# Altium footprint library Battery.PcbLib: 12 footprints
Each footprint in its own frame and in the unit in brackets; x right, y up, seen from the top. Pads: shape width x height; smd on the part's side, far side on the other; paste and mask are expansions set on the pad; w line width, h text height; cw(c..) or ccw(c..) is an arc to the next point about the centre after c.
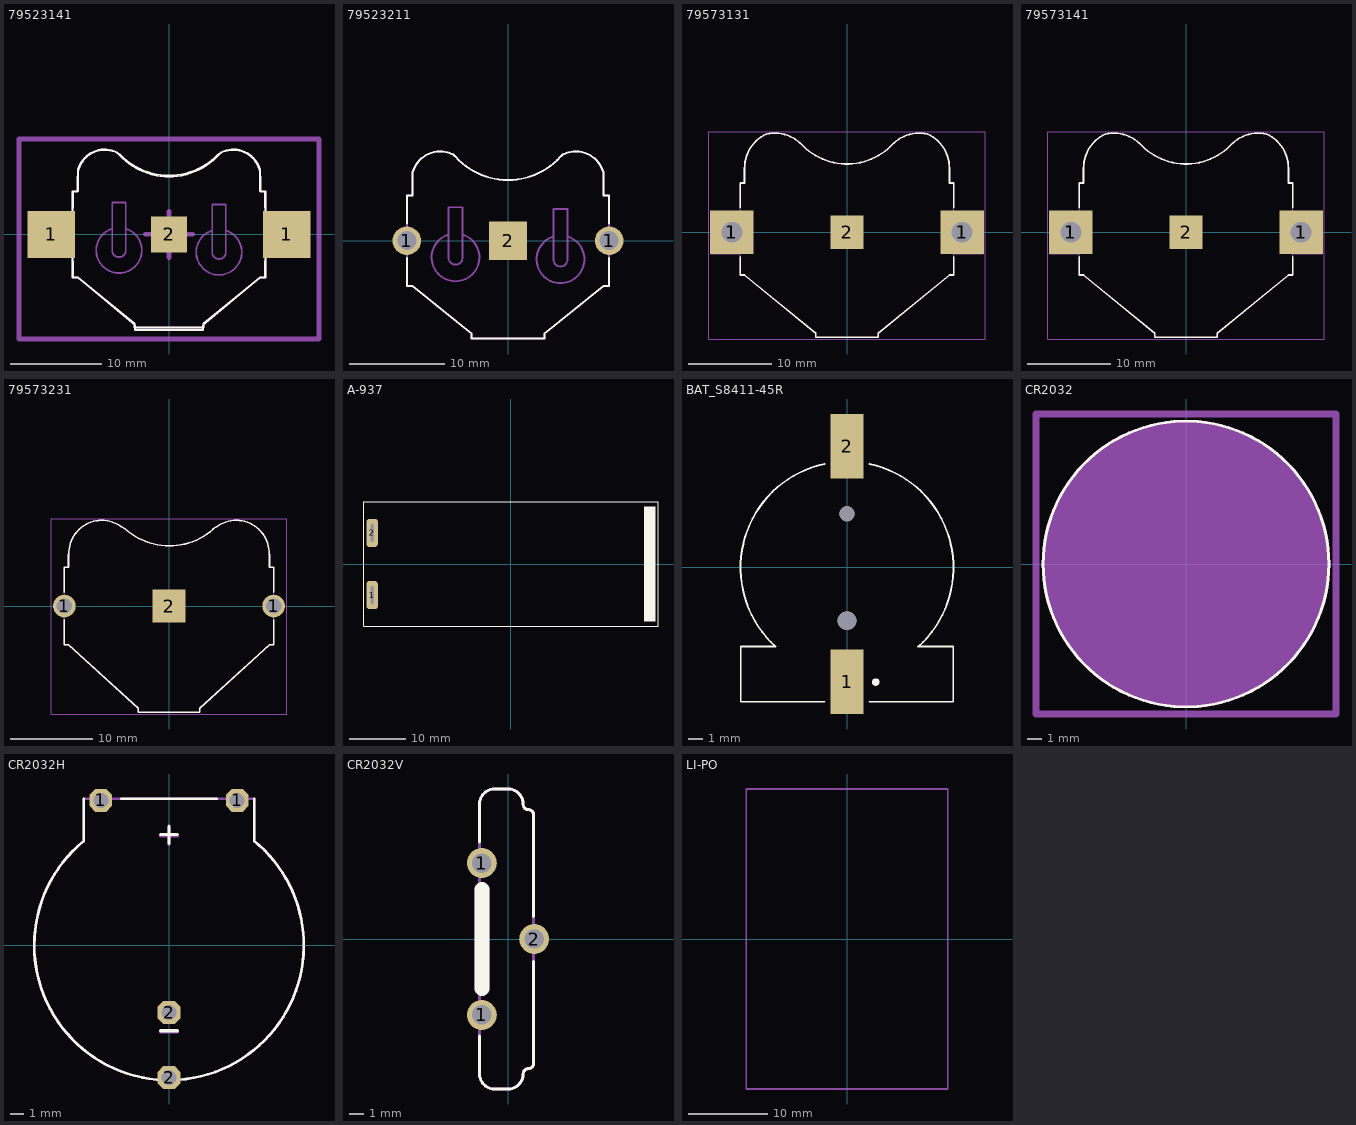
[diagram p0: the footprints below, top view; thin cyan lines are the x and y axes]

## 79523141 [mm] "Battery Holder, Battery Type: 2016,2020,2025,2032"
height 3.85
pads (4):
  rect 5.2x5.2 smd: 1(-12.95,0) 1(12.95,0)
  rect 4x4 smd: 2(0,0) 2(0,0)
Top Overlay:
  lines w0.2: -10.6,-1.8 -10.6,-4.75 -10,-4.75 -3.81,-9.762 -3.81,-10.25 3.81,-10.25 3.81,-9.762 10,-4.75 10.6,-4.75 10.6,-1.8 ; -10.6,1.8 -10.6,4.75 -10,4.75 -10,7.126 ; -10.55,-2.95 -10.55,-4.7 -10.05,-4.7 -3.743,-9.992 ; -10.55,2.95 -10.55,4.7 -10.05,4.7 -10.05,6.3 cw(c-7.05,6.3) -5.426,8.823 ccw(c0,14) 5.426,8.823 cw(c7.05,6.3) 10.05,6.3 10.05,4.7 10.55,4.7 10.55,2.95 ; -9.998,7.126 cw(c-7.1,6.35) -5.737,9.023 ; -5.709,8.992 ccw(c-4.45,10.15) -5.468,8.775 ; -5.471,8.772 ccw(c0,13.74) 5.472,8.773 ; -3.75,-10 -3.75,-10.5 3.75,-10.5 3.75,-10 ; 3.743,-9.992 10.05,-4.7 10.55,-4.7 10.55,-2.95 ; 5.469,8.775 ccw(c4.45,10.15) 5.71,8.992 ; 5.738,9.023 cw(c7.1,6.35) 9.998,7.126 ; 10,7.126 10,4.75 10.6,4.75 10.6,1.8
Mechanical 13:
  region: 15.25,2.55 10.6,2.55 10.6,-2.55 15.25,-2.55
  rectangle: -15.25,-2.55 -10.6,2.55
  lines w0.1: -10,7.126 -10,4.75 -10.6,4.75 -10.6,-4.75 -10,-4.75 -3.81,-9.762 -3.81,-10.25 3.81,-10.25 3.81,-9.762 10,-4.75 10.6,-4.75 10.6,4.75 10,4.75 10,7.126 ; -9.998,7.126 cw(c-7.1,6.35) -5.737,9.023 ; -5.709,8.992 ccw(c-4.45,10.15) -5.468,8.775 ; -5.471,8.772 ccw(c0,13.74) 5.472,8.773 ; 5.469,8.775 ccw(c4.45,10.15) 5.71,8.992 ; 5.738,9.023 cw(c7.1,6.35) 9.998,7.126
  lines w0.2: -10,7.126 -10,4.75 -10.6,4.75 -10.6,-4.75 -10,-4.75 -3.81,-9.762 -3.81,-10.25 3.81,-10.25 3.81,-9.762 10,-4.75 10.6,-4.75 10.6,4.75 10,4.75 10,7.126 ; -9.998,7.126 cw(c-7.1,6.35) -5.737,9.023 ; -6.25,0.635 ccw(c-5.5,-1.75) -4.75,0.635 ; -5.709,8.992 ccw(c-4.45,10.15) -5.468,8.775 ; -5.471,8.772 ccw(c0,13.74) 5.472,8.773 ; 4.75,0.434 ccw(c5.5,-1.951) 6.273,0.427 ; 5.469,8.775 ccw(c4.45,10.15) 5.71,8.992 ; 5.738,9.023 cw(c7.1,6.35) 9.998,7.126 ; -6.25,-1.75 ccw(c-5.5,-1.75) -4.75,-1.75 -4.75,3.5 -6.25,3.5 -6.25,-1.75 ; 4.75,-1.951 ccw(c5.5,-1.951) 6.25,-1.951 6.25,3.3 4.75,3.3 4.75,-1.951
  text ".Designator" at -7.617,-6.508 h1.52
Top Courtyard:
  lines w0.5: -2.599,0 2.599,0 ; -0.5,0 0.5,0 ; 0,-2.55 0,2.55 ; 0,-0.5 0,0.5 ; 0,2.55 0,2.55 ; -16.5,-11.5 -16.5,10.5 16.5,10.5 16.5,-11.5 -16.5,-11.5
3D body "79523141.stp": height 4, standoff 0.15, extent -15.25,-10.5 15.25,9.3

## 79523211 [mm] "Battery Holder, Battery Type: 2016,2020,2025,2032"
height 3.8
pads (3):
  round 3 hole 2: 1(-10.6,0) 1(10.6,0)
  rect 4x4 smd: 2(0,0)
Top Overlay:
  lines w0.2: -10.6,-1.8 -10.6,-4.75 -10,-4.75 -3.81,-9.762 -3.81,-10.25 3.81,-10.25 3.81,-9.762 10,-4.75 10.6,-4.75 10.6,-1.8 ; -10.6,1.8 -10.6,4.75 -10,4.75 -10,7.126 ; -9.998,7.126 cw(c-7.1,6.35) -5.737,9.023 ; -5.709,8.991 ccw(c-4.45,10.15) -5.469,8.775 ; -5.471,8.772 ccw(c0,13.74) 5.471,8.772 ; 5.469,8.775 ccw(c4.45,10.15) 5.709,8.991 ; 5.737,9.023 cw(c7.1,6.35) 9.998,7.126 ; 10,7.126 10,4.75 10.6,4.75 10.6,1.8
Top Solder:
  drawing of 1 lines, arcs and shapes, not listed
Mechanical 13:
  lines w0.1: -10,7.126 -10,4.75 -10.6,4.75 -10.6,-4.75 -10,-4.75 -3.81,-9.762 -3.81,-10.25 3.81,-10.25 3.81,-9.762 10,-4.75 10.6,-4.75 10.6,4.75 10,4.75 10,7.126 ; -9.998,7.126 cw(c-7.1,6.35) -5.737,9.023 ; -5.709,8.991 ccw(c-4.45,10.15) -5.469,8.775 ; -5.471,8.772 ccw(c0,13.74) 5.471,8.772 ; 5.469,8.775 ccw(c4.45,10.15) 5.709,8.991 ; 5.737,9.023 cw(c7.1,6.35) 9.998,7.126
  lines w0.2: -10,7.126 -10,4.75 -10.6,4.75 -10.6,-4.75 -10,-4.75 -3.81,-9.762 -3.81,-10.25 3.81,-10.25 3.81,-9.762 10,-4.75 10.6,-4.75 10.6,4.75 10,4.75 10,7.126 ; -9.998,7.126 cw(c-7.1,6.35) -5.737,9.023 ; -6.25,0.635 ccw(c-5.5,-1.75) -4.75,0.635 ; -5.709,8.991 ccw(c-4.45,10.15) -5.469,8.775 ; -5.471,8.772 ccw(c0,13.74) 5.471,8.772 ; 4.75,0.434 ccw(c5.5,-1.951) 6.273,0.427 ; 5.469,8.775 ccw(c4.45,10.15) 5.709,8.991 ; 5.737,9.023 cw(c7.1,6.35) 9.998,7.126 ; -6.25,-1.75 ccw(c-5.5,-1.75) -4.75,-1.75 -4.75,3.5 -6.25,3.5 -6.25,-1.75 ; 4.75,-1.951 ccw(c5.5,-1.951) 6.25,-1.951 6.25,3.299 4.75,3.299 4.75,-1.951
  text ".Designator" at -7.618,-6.508 h1.52
3D body "CR 2032 Lithium Cell.step": height 3.21, standoff 0.01, extent -10,-10 10,10
3D body "79523211.stp": height 4.02, standoff -2.1, extent -11.298,-10.25 11.298,9.35

## 79573131 [mm] "Battery Holder, Battery Type: 2430"
height 2.8
pads (5):
  round 3.75 hole 2.5: 1(-13.815,0) 1(13.815,0)
  rect 5.2x5.2 smd: 1(-13.815,0) 1(13.815,0)
  rect 4x4 smd: 2(0,0)
Top Overlay:
  lines w0.2: -12.8,-2.95 -12.8,-5.124 -12.3,-5.124 -3.749,-12.098 ; -12.8,2.95 -12.8,5.916 -12.3,5.916 -12.3,7.696 cw(c-7.8,7.696) -9.671,11.789 ; -9.668,11.784 cw(c-8.67,7.396) -5.599,10.685 ; -5.588,10.694 ccw(c0,15.696) 5.588,10.694 ; -3.75,-12.1 -3.75,-12.6 3.75,-12.6 3.75,-12.1 ; 3.749,-12.098 12.3,-5.124 12.8,-5.124 12.8,-2.95 ; 5.599,10.685 cw(c8.67,7.396) 9.668,11.784 ; 9.671,11.789 cw(c7.8,7.696) 12.3,7.696 ; 12.8,2.95 12.8,5.916 12.3,5.916 ; 12.3,5.916 12.3,7.696 ; 12.3,5.916 12.3,7.696
Top Solder:
  drawing of 1 lines, arcs and shapes, not listed
Top 3D Body:
  lines w0.1: -9.671,11.789 ccw(c-7.8,7.696) -12.3,7.696 -12.3,5.916 -12.8,5.916 -12.8,2.55 ; -9.668,11.784 cw(c-8.67,7.396) -5.599,10.685 ; -5.588,10.694 ccw(c0,15.696) 5.588,10.694 ; -3.75,-12.1 -3.75,-12.6 3.75,-12.6 3.75,-12.1 ; -3.749,-12.098 -12.3,-5.124 -12.8,-5.124 -12.8,-2.55 ; 3.749,-12.098 12.3,-5.124 12.8,-5.124 12.8,-2.55 ; 5.599,10.685 cw(c8.67,7.396) 9.668,11.784 ; 9.671,11.789 cw(c7.8,7.696) 12.3,7.696 ; -12.8,-2.55 -16.35,-2.55 -16.35,2.55 -12.8,2.55 ; -12.8,-2.55 -12.8,-2.55 ; -12.8,2.55 -12.8,2.55 ; 12.3,5.916 12.8,5.916 12.8,2.55 ; 12.3,5.916 12.3,7.696 ; 12.3,5.916 12.3,7.696 ; 12.8,-2.55 12.8,-2.55 ; 12.8,-2.55 16.35,-2.55 16.35,2.55 12.8,2.55 ; 12.8,2.55 12.8,2.55
  text "open landscape for no solder resist" at -9.15,-13.804 h0.81
Top Designator:
  text ".Designator" at -7.498,-0.5 h1.5
Top Component Outline:
  lines w0.1: -9.671,11.789 ccw(c-7.8,7.696) -12.3,7.696 -12.3,5.916 -12.8,5.916 -12.8,2.55 ; -9.668,11.784 cw(c-8.67,7.396) -5.599,10.685 ; -5.588,10.694 ccw(c0,15.696) 5.588,10.694 ; -3.75,-12.1 -3.75,-12.6 3.75,-12.6 3.75,-12.1 ; -3.749,-12.098 -12.3,-5.124 -12.8,-5.124 -12.8,-2.55 ; 3.749,-12.098 12.3,-5.124 12.8,-5.124 12.8,-2.55 ; 5.599,10.685 cw(c8.67,7.396) 9.668,11.784 ; 9.671,11.789 cw(c7.8,7.696) 12.3,7.696 ; -12.8,-2.55 -12.8,-2.55 ; -12.8,-2.55 -16.35,-2.55 -16.35,2.55 -12.8,2.55 ; -12.8,2.55 -12.8,2.55 ; 12.3,5.916 12.3,7.696 ; 12.3,5.916 12.3,7.696 ; 12.3,5.916 12.8,5.916 12.8,2.55 ; 12.8,-2.55 16.35,-2.55 16.35,2.55 12.8,2.55 ; 12.8,-2.55 12.8,-2.55 ; 12.8,2.55 12.8,2.55
Top Courtyard:
  lines w0.05: -0.5,0.596 0.5,0.596 ; 0,0.096 0,1.096 ; -16.615,-12.8 16.615,-12.8 16.615,12.096 -16.615,12.096 -16.615,-12.8
3D body "79573131.stp": height 3.9, standoff 0.05, extent -16.35,-12.6 16.35,11.896

## 79573141 [mm] "Battery Holder, Battery Type: 2430"
height 2.8
pads (5):
  round 3.75 hole 2.5: 1(-13.815,0) 1(13.815,0)
  rect 5.2x5.2 smd: 1(-13.815,0) 1(13.815,0)
  rect 4x4 smd: 2(0,0)
Top Overlay:
  lines w0.2: -12.8,-2.95 -12.8,-5.124 -12.3,-5.124 -3.749,-12.098 ; -12.8,2.95 -12.8,5.916 -12.3,5.916 -12.3,7.696 cw(c-7.8,7.696) -9.671,11.789 ; -9.668,11.784 cw(c-8.67,7.396) -5.599,10.685 ; -5.588,10.694 ccw(c0,15.696) 5.588,10.694 ; -3.75,-12.1 -3.75,-12.6 3.75,-12.6 3.75,-12.1 ; 3.749,-12.098 12.3,-5.124 12.8,-5.124 12.8,-2.95 ; 5.599,10.685 cw(c8.67,7.396) 9.668,11.784 ; 9.671,11.789 cw(c7.8,7.696) 12.3,7.696 ; 12.8,2.95 12.8,5.916 12.3,5.916 ; 12.3,5.916 12.3,7.696 ; 12.3,5.916 12.3,7.696
Top Solder:
  drawing of 1 lines, arcs and shapes, not listed
Top 3D Body:
  lines w0.1: -9.671,11.789 ccw(c-7.8,7.696) -12.3,7.696 -12.3,5.916 -12.8,5.916 -12.8,2.55 ; -9.668,11.784 cw(c-8.67,7.396) -5.599,10.685 ; -5.588,10.694 ccw(c0,15.696) 5.588,10.694 ; -3.75,-12.1 -3.75,-12.6 3.75,-12.6 3.75,-12.1 ; -3.749,-12.098 -12.3,-5.124 -12.8,-5.124 -12.8,-2.55 ; 3.749,-12.098 12.3,-5.124 12.8,-5.124 12.8,-2.55 ; 5.599,10.685 cw(c8.67,7.396) 9.668,11.784 ; 9.671,11.789 cw(c7.8,7.696) 12.3,7.696 ; -12.8,-2.55 -16.35,-2.55 -16.35,2.55 -12.8,2.55 ; -12.8,-2.55 -12.8,-2.55 ; -12.8,2.55 -12.8,2.55 ; 12.3,5.916 12.8,5.916 12.8,2.55 ; 12.3,5.916 12.3,7.696 ; 12.3,5.916 12.3,7.696 ; 12.8,-2.55 12.8,-2.55 ; 12.8,-2.55 16.35,-2.55 16.35,2.55 12.8,2.55 ; 12.8,2.55 12.8,2.55
  text "open landscape for no solder resist" at -9.15,-13.804 h0.81
Top Designator:
  text ".Designator" at -7.498,-0.5 h1.5
Top Component Outline:
  lines w0.1: -9.671,11.789 ccw(c-7.8,7.696) -12.3,7.696 -12.3,5.916 -12.8,5.916 -12.8,2.55 ; -9.668,11.784 cw(c-8.67,7.396) -5.599,10.685 ; -5.588,10.694 ccw(c0,15.696) 5.588,10.694 ; -3.75,-12.1 -3.75,-12.6 3.75,-12.6 3.75,-12.1 ; -3.749,-12.098 -12.3,-5.124 -12.8,-5.124 -12.8,-2.55 ; 3.749,-12.098 12.3,-5.124 12.8,-5.124 12.8,-2.55 ; 5.599,10.685 cw(c8.67,7.396) 9.668,11.784 ; 9.671,11.789 cw(c7.8,7.696) 12.3,7.696 ; -12.8,-2.55 -12.8,-2.55 ; -12.8,-2.55 -16.35,-2.55 -16.35,2.55 -12.8,2.55 ; -12.8,2.55 -12.8,2.55 ; 12.3,5.916 12.3,7.696 ; 12.3,5.916 12.3,7.696 ; 12.3,5.916 12.8,5.916 12.8,2.55 ; 12.8,-2.55 16.35,-2.55 16.35,2.55 12.8,2.55 ; 12.8,-2.55 12.8,-2.55 ; 12.8,2.55 12.8,2.55
Top Courtyard:
  lines w0.05: -0.5,0.596 0.5,0.596 ; 0,0.096 0,1.096 ; -16.615,-12.8 16.615,-12.8 16.615,12.096 -16.615,12.096 -16.615,-12.8
3D body "79573131.stp": height 3.9, standoff 0.05, extent -16.35,-12.6 16.35,11.896

## 79573231 [mm] "Battery Holder, Battery Type: 2430"
height 3.7
pads (3):
  round 2.75 hole 1.85: 1(-12.7,0) 1(12.7,0)
  rect 4x4 smd: 2(0,0)
Top Overlay:
  lines w0.2: -12.7,-1.7 -12.7,-4.7 -12.2,-4.7 -3.744,-12.394 ; -12.7,1.7 -12.7,4.7 -12.2,4.7 -12.2,6.2 ; -12.187,6.2 cw(c-9.3,6.1) -12.145,6.597 cw(c-8.15,6.4) -5.953,9.743 ccw(c-4.45,11.8) -5.629,9.541 ccw(c-4.125,11.598) -5.304,9.339 ; -5.296,9.348 ccw(c0.05,15.3) 5.34,9.299 ; -3.75,-12.4 -3.75,-12.9 3.75,-12.9 3.75,-12.4 ; 3.744,-12.394 12.2,-4.7 12.7,-4.7 12.7,-1.7 ; 5.304,9.339 ccw(c4.125,11.598) 5.629,9.541 ccw(c4.45,11.8) 5.953,9.743 cw(c8.15,6.4) 12.145,6.597 cw(c9.3,6.1) 12.187,6.2 ; 12.2,6.2 12.2,4.7 12.7,4.7 12.7,1.7
Top Solder:
  drawing of 1 lines, arcs and shapes, not listed
Top 3D Body:
  lines w0.1: -12.2,6.2 -12.2,4.7 -12.7,4.7 -12.7,-4.7 -12.2,-4.7 -3.744,-12.394 ; -12.187,6.2 cw(c-9.3,6.1) -12.145,6.597 cw(c-8.15,6.4) -5.953,9.743 ccw(c-4.45,11.8) -5.629,9.541 ccw(c-4.125,11.598) -5.304,9.339 ; -5.296,9.348 ccw(c0.05,15.3) 5.34,9.299 ; -3.75,-12.4 -3.75,-12.9 3.75,-12.9 3.75,-12.4 ; 3.744,-12.394 12.2,-4.7 12.7,-4.7 12.7,4.7 12.2,4.7 12.2,6.2 ; 5.304,9.339 ccw(c4.125,11.598) 5.629,9.541 ccw(c4.45,11.8) 5.953,9.743 cw(c8.15,6.4) 12.145,6.597 cw(c9.3,6.1) 12.187,6.2
  text "open landscape for no solder resist" at -9.45,-14.204 h0.81
Top Designator:
  text ".Designator" at -7.498,-0.5 h1.5
Top Component Outline:
  lines w0.1: -12.2,6.2 -12.2,4.7 -12.7,4.7 -12.7,-4.7 -12.2,-4.7 -3.744,-12.394 ; -12.187,6.2 cw(c-9.3,6.1) -12.145,6.597 cw(c-8.15,6.4) -5.953,9.743 ccw(c-4.45,11.8) -5.629,9.541 ccw(c-4.125,11.598) -5.304,9.339 ; -5.296,9.348 ccw(c0.05,15.3) 5.34,9.299 ; -3.75,-12.4 -3.75,-12.9 3.75,-12.9 3.75,-12.4 ; 3.744,-12.394 12.2,-4.7 12.7,-4.7 12.7,4.7 12.2,4.7 12.2,6.2 ; 5.304,9.339 ccw(c4.125,11.598) 5.629,9.541 ccw(c4.45,11.8) 5.953,9.743 cw(c8.15,6.4) 12.145,6.597 cw(c9.3,6.1) 12.187,6.2
Top Courtyard:
  lines w0.05: -0.5,0 0.5,0 ; 0,-0.5 0,0.5 ; -14.275,-13.1 14.275,-13.1 14.275,10.6 -14.275,10.6 -14.275,-13.1
3D body "79573231.stp": height 3.8, standoff -2.9, extent -13.546,-12.9 13.546,10.4

## A-937 [mm]
pads (2):
  rrect50% 2x5 hole 3.2 slot 0.5 at 0 deg: 1(-24.55,-5.5) 2(-24.55,5.5)
Top Overlay:
  rectangle: 23.55,-10.175 25.55,10.175
  lines w0.1: 25,-9 25,9 ; -26,-11 26,-11 26,11 -26,11 -26,-11
3D body "2xAAA_BOX v1.step": height 9, standoff 0.8, extent 21.525,-10.175 24.426,10.175
3D body "1XAAA_yaysýz v2.step": height 9.1, standoff -4.9, extent -24.75,-10.15 -22.95,-0.85
3D body "1XAAA_yaylý v1.step": height 9.1, standoff -4.9, extent -24.75,0.85 -21.649,10.15

## AAA size battery [mm]
3D body "AAA Battery.step": height 10.63, standoff 0.37, extent -22.175,-5.125 22.175,5.125

## BAT_S8411-45R [mm]
pads (4):
  rect 2.3x4.5 smd: 1(0,-7.975) 2(0,8.425)
  round 1.3 hole 1.3 unplated: ""(0,-3.725)
  round 1.05 hole 1.05 unplated: ""(0,3.725)
Top Overlay:
  circle w0.3: c2,-8 r0.112
  lines w0.127: -4.975,-5.525 -7.4,-5.525 -7.4,-9.375 -1.55,-9.375 ; -4.971,-5.529 cw(c-0.026,-0.037) -1.562,7.192 ; 1.55,-9.375 7.4,-9.375 7.4,-5.525 4.925,-5.525 ; 1.562,7.192 cw(c0.026,-0.037) 4.971,-5.529
3D body "S8411-45R.STEP": height 4.26, standoff -0.94, extent -7.372,-9.6 7.372,9.6

## CR2032 [mm] "2032 BATTERY"
height 3.85
Top Overlay:
  circle w0.2: c0,0 r10
Mechanical 13:
  circle w0.2: c0,0 r10
  circle w10: c0,0 r5
  text ".Designator" at -7.618,11.492 h1.52
Top Courtyard:
  lines w0.5: -10.5,-10.5 -10.5,10.5 10.5,10.5 10.5,-10.5 -10.5,-10.5
3D body "CR 2032 Lithium Cell.step": height 3.21, standoff 0.01, extent -10,-10 10,10

## CR2032H [mil]
pads (4):
  oct 66.93x66.93 / inner oct 60x60 / far side oct 66.93x66.93 hole 44: 1(-200,425) 1(200,425) 2(0,-387.48) 2(0,-196.85)
Top Overlay:
  lines w7.87: -250,430 -250,395 -250,305.86 ccw(c0,0) 395,-5 ccw(c0,0) 250,305.85 250,395 250,430 ; -140,430 140,430
  lines w10: -25,-250 25,-250 ; -25,325 25,325 ; 0,300 0,350
Mechanical 13:
  lines w7.87: -25,-255 25,-255 ; -25,320 25,320 ; 0,295 0,345 ; -250,305.86 ccw(c0,0) 395,-5 ccw(c0,0) 250,305.85 250,395 250,430 140,430 -140,430 -250,430 -250,395 -250,305.86
  text ".Designator" at -305.12,-29.54 h118.11
3D body "CR2032_yatay.step": height 212.6, standoff -147.64, extent -396.45,-376.45 396.46,431.03

## CR2032V [mm]
pads (3):
  round 2 hole 1.3: 1(-1.75,-5.08) 1(-1.75,5.08) 2(1.75,0)
Top Overlay:
  lines w0.2: -1.905,-6.477 -1.905,-9.017 ; -1.905,6.477 -1.905,9.017 cw(c-0.889,9.017) -0.889,10.033 0,10.033 cw(c0,9.017) 1.016,9.017 ; 1.016,9 ccw(c1.366,9) 1.366,8.65 cw(c1.366,8.3) 1.716,8.3 1.716,1.5 ; 1.716,-1.517 1.716,-8.317 cw(c1.366,-8.317) 1.366,-8.667 ccw(c1.366,-9.017) 1.016,-9.017 cw(c0,-9.017) 0,-10.033 -0.889,-10.033 ; -1.905,-9.017 ccw(c-0.889,-9.017) -0.889,-10.033 ; -1.905,-9.017 ccw(c-0.889,-9.017) -0.889,-10.033
  lines w1: -1.75,-3.302 -1.75,3.302 -1.75,-3.302
Mechanical 13:
  lines w0.2: -1.905,9 -1.905,-9.017 ccw(c-0.889,-9.017) -0.889,-10.033 0,-10.033 ccw(c0,-9.017) 1.016,-9.017 cw(c1.366,-9.017) 1.366,-8.667 ccw(c1.366,-8.317) 1.716,-8.317 1.716,8.3 ccw(c1.366,8.3) 1.366,8.65 cw(c1.366,9) 1.016,9 ; -1.905,9.017 cw(c-0.889,9.017) -0.889,10.033 0,10.033 cw(c0,9.017) 1.016,9.017
  lines w1: -1.75,-3.302 -1.75,3.302
  text ".Designator" at 0.25,-3.749 h0.75
3D body "CR2032-PEN3.step": height 21.02, standoff -4, extent -1.9,-10.005 1.6,10.005

## LI-PO [mm]
Mechanical 15:
  lines w0.2: -12.75,-19 12.75,-19 12.75,19 -12.75,19 -12.75,-19
3D body "LI-PO v1.step": height 5.4, standoff 0, extent -12.25,-19 12.25,21.039